# Altium schematic symbol library PTS810_SJM_250_SMTR_LFS.SchLib: 1 symbol
Pins are listed as number, name and electrical type; pins without a type are passive.

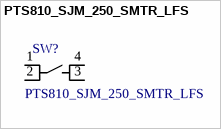
[diagram p0: symbol PTS810_SJM_250_SMTR_LFS]

## PTS810_SJM_250_SMTR_LFS
designator SW?
Tactile Switch SPST-NO Top Actuated Surface Mount; MP: PTS810 SJM 250 SMTR LFS; MF: C&K; Availability: Unavailable; Package: None; Price: 0.3; SnapEDA_Link: https://www.snapeda.com/parts/PTS810%20SJM%20250%20SMTR%20LFS/C%26K/view-part/522770/?ref=snap; Value: *; Digikey link: https://www.digikey.com/product-detail/en/c-k/PTS810-SJM-250-SMTR-LFS/CKN10502CT-ND/4176673; Datasheet link: https://dznh3ojzb2azq.cloudfront.net/products/Tactile/PTS810/documents/datasheet.pdf; Supplier 1: Digi-Key; Supplier Part Number 1: CKN10502CT-ND
footprint *SW_PTS810_SJM_250_SMTR_LFS
pins: 1, 2, 3, 4